# Altium schematic symbol library VR.Schlib: 1 symbol
Pins are listed as number, name and electrical type; pins without a type are passive.

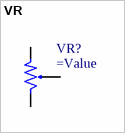
[diagram p0: symbol VR]

## VR
designator VR?
=Description
pins: 1, 2, 3